# EAGLE library part CUSTOM_7_SEG (library MyParts)
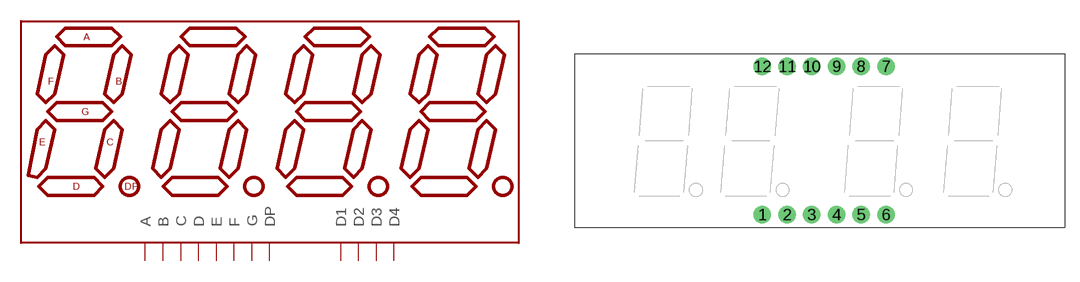
[diagram p0: symbol with the pads of 7-SEGMENT-4DIGIT-YOUNGSUN; footprint 7-SEGMENT-4DIGIT-YOUNGSUN]

Designator prefix -

## CUSTOM_7_SEG  [7-SEGMENT-4DIGIT-YOUNGSUN]
1  E
2  D
3  DP
4  C
5  G
6  D4
7  B
8  D3
9  D2
10  F
11  A
12  D1

## Footprint 7-SEGMENT-4DIGIT-YOUNGSUN (pad centres in mm)
This is a package for the 4-digit 7-segment RED LED from Young Sun.
drill 0.8 pad 1.778: 1 -5.89,-5.08; 2 -3.35,-5.08; 3 -0.81,-5.08; 4 1.73,-5.08; 5 4.27,-5.08; 6 6.81,-5.08; 7 6.81,10.16; 8 4.27,10.16; 9 1.73,10.16; 10 -0.81,10.16; 11 -3.35,10.16; 12 -5.89,10.16